# EAGLE library part THS4631-SOIC8 (library RSC-16)
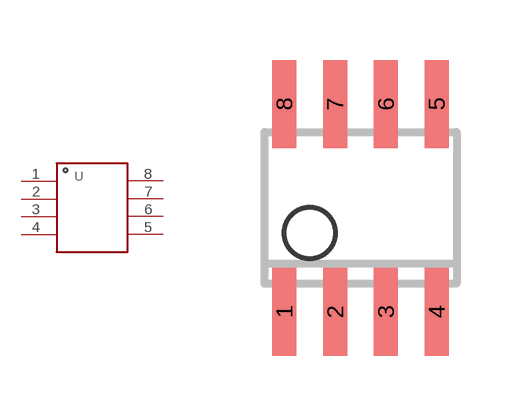
[diagram p2: symbol with the pads of SOIC8; footprint SOIC8]

Designator prefix -

## THS4631-SOIC8  [SOIC8]
1  1-NC
2  2-VIN-
3  3-VIN+
4  4-VS-
5  5-NC
6  6-VOUT
7  7-VS+
8  8-NC

## Footprint SOIC8 (pad centres in mm)
Small Outline IC
smd 0.6 x 2.2: 1 -1.905,-2.6; 2 -0.635,-2.6; 3 0.635,-2.6; 4 1.905,-2.6; 5 1.905,2.6; 6 0.635,2.6; 7 -0.635,2.6; 8 -1.905,2.6